# Altium footprint library INA250.PcbLib: 1 footprints
Each footprint in its own frame and in the unit in brackets; x right, y up, seen from the top. Pads: shape width x height; smd on the part's side, far side on the other; paste and mask are expansions set on the pad; w line width, h text height; cw(c..) or ccw(c..) is an arc to the next point about the centre after c.
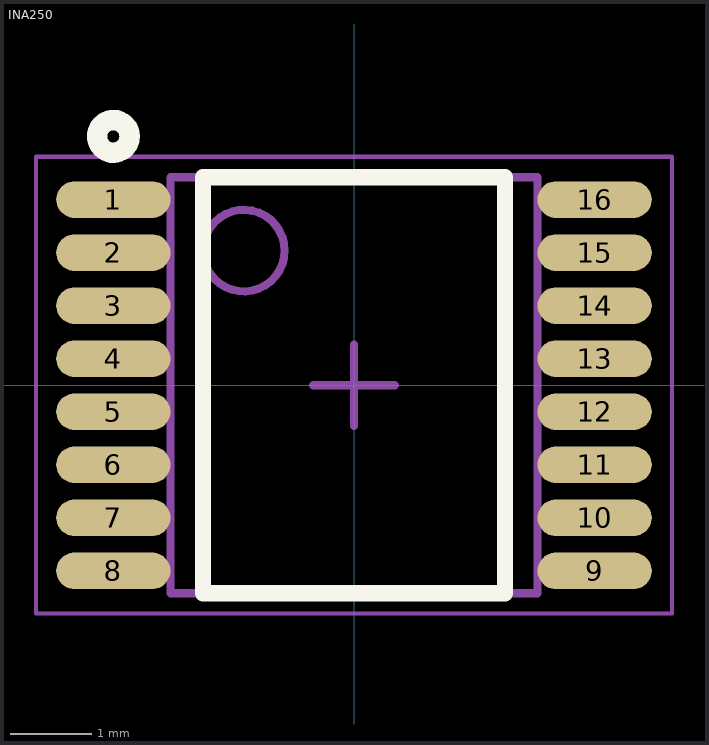
[diagram p0: the footprint, top view; thin cyan lines are the x and y axes]

## INA250 [mm] "TTSOP, 16-Leads, Body 5.00x4.40mm, Pitch 0.65mm, IPC Medium Density"
height 1.2
pads (16):
  oval 1.4x0.45 smd: 1(-2.95,2.275) 2(-2.95,1.625) 3(-2.95,0.975) 4(-2.95,0.325) 5(-2.95,-0.325) 6(-2.95,-0.975) 7(-2.95,-1.625) 8(-2.95,-2.275) 9(2.95,-2.275) 10(2.95,-1.625) 11(2.95,-0.975) 12(2.95,-0.325) 13(2.95,0.325) 14(2.95,0.975) 15(2.95,1.625) 16(2.95,2.275)
Top Overlay:
  circle w0.25: c-2.95,3.05 r0.2
  lines w0.2: -1.85,-2.55 1.85,-2.55 1.85,2.55 -1.85,2.55 -1.85,-2.55
Mechanical 13:
  circle w0.1: c-1.35,1.65 r0.5
  lines w0.1: -2.25,-2.55 2.25,-2.55 2.25,2.55 -2.25,2.55 -2.25,-2.55
Mechanical 15:
  lines w0.05: -3.9,-2.8 3.9,-2.8 3.9,2.8 -3.9,2.8 -3.9,-2.8
  lines w0.1: -0.5,0 0.5,0 ; 0,-0.5 0,0.5
3D body: height 1.2, standoff 0.05, extent -2.25,-2.55 2.25,2.55